# Altium footprint library 691 311 400 0xx.PcbLib: 6 footprints
Each footprint in its own frame and in the unit in brackets; x right, y up, seen from the top. Pads: shape width x height; smd on the part's side, far side on the other; paste and mask are expansions set on the pad; w line width, h text height; cw(c..) or ccw(c..) is an arc to the next point about the centre after c.
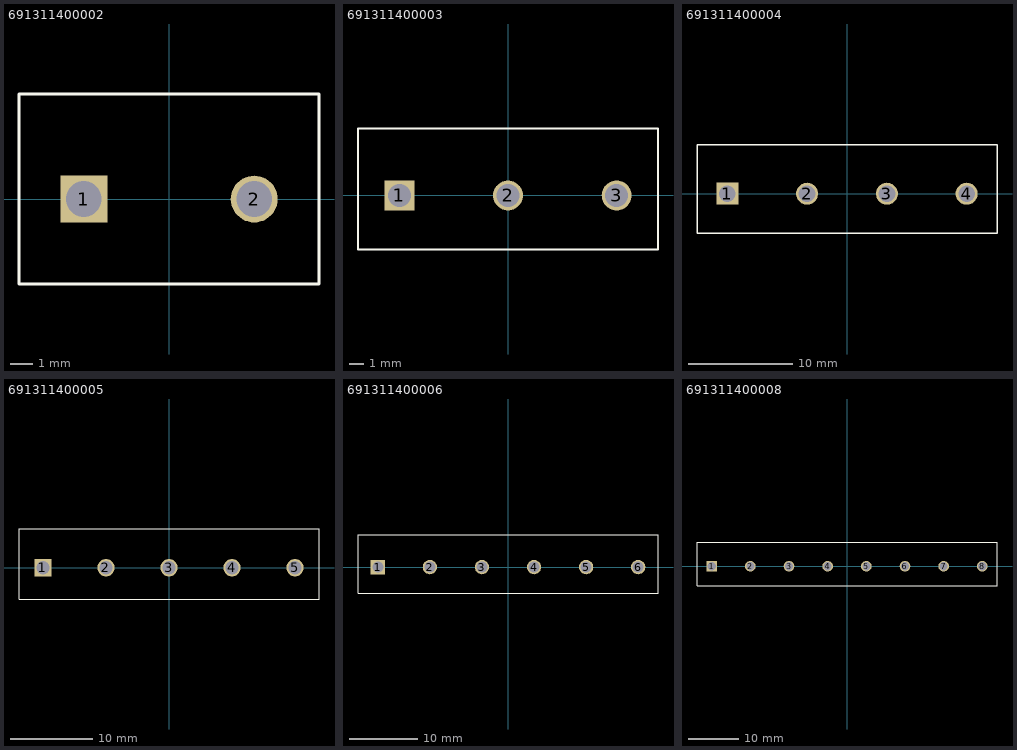
[diagram p0: the footprints below, top view; thin cyan lines are the x and y axes]

## 691311400002 [mm] "7.62 mm - Open Vertical PCB Header - 2p"
height 12
pads (2):
  rect 2.1x2.1 hole 1.6: 1(-3.81,0)
  round 2.1 hole 1.6: 2(3.81,0)
Top Overlay:
  lines w0.127: -6.71,-3.8 6.71,-3.8 6.71,4.7 -6.71,4.7 -6.71,-3.8
3D body: height 12.01, standoff -3.99, extent -6.71,-3.8 6.71,4.7

## 691311400003 [mm] "7.62 mm - Open Vertical PCB Header - 3p"
height 12
pads (3):
  rect 2.1x2.1 hole 1.6: 1(-7.62,0)
  round 2.1 hole 1.6: 2(0,0) 3(7.62,0)
Top Overlay:
  lines w0.127: -10.52,-3.8 -10.52,4.7 10.52,4.7 10.52,-3.8 -10.52,-3.8
3D body: height 12.01, standoff -3.99, extent -10.52,-3.8 10.52,4.7

## 691311400004 [mm] "7.62 mm - Open Vertical PCB Header - 4p"
height 12
pads (4):
  rect 2.1x2.1 hole 1.6: 1(-11.43,0)
  round 2.1 hole 1.6: 2(-3.81,0) 3(3.81,0) 4(11.43,0)
Top Overlay:
  lines w0.127: -14.33,-3.8 14.33,-3.8 14.33,4.7 -14.33,4.7 -14.33,-3.8
3D body: height 12.01, standoff -3.99, extent -14.33,-3.8 14.33,4.7

## 691311400005 [mm] "7.62 mm - Open Vertical PCB Header - 5p"
height 12
pads (5):
  rect 2.1x2.1 hole 1.6: 1(-15.24,0)
  round 2.1 hole 1.6: 2(-7.62,0) 3(0,0) 4(7.62,0) 5(15.24,0)
Top Overlay:
  lines w0.127: -18.14,-3.8 18.14,-3.8 18.14,4.7 -18.14,4.7 -18.14,-3.8
3D body: height 12.01, standoff -3.99, extent -18.14,-3.8 18.14,4.7

## 691311400006 [mm] "7.62 mm - Open Vertical PCB Header - 6p"
height 12
pads (6):
  rect 2.1x2.1 hole 1.6: 1(-19.05,0)
  round 2.1 hole 1.6: 2(-11.43,0) 3(-3.81,0) 4(3.81,0) 5(11.43,0) 6(19.05,0)
Top Overlay:
  lines w0.127: -21.95,-3.8 21.95,-3.8 21.95,4.7 -21.95,4.7 -21.95,-3.8
3D body: height 12.01, standoff -3.99, extent -21.95,-3.8 21.95,4.7

## 691311400008 [mm] "7.62 mm - Open Vertical PCB Header - 8p"
height 12
pads (8):
  rect 2.1x2.1 hole 1.6: 1(-26.67,0)
  round 2.1 hole 1.6: 2(-19.05,0) 3(-11.43,0) 4(-3.81,0) 5(3.81,0) 6(11.43,0) 7(19.05,0) 8(26.67,0)
Top Overlay:
  lines w0.127: -29.57,-3.8 29.57,-3.8 29.57,4.7 -29.57,4.7 -29.57,-3.8
3D body: height 12.01, standoff -3.99, extent -29.57,-3.81 29.57,4.69